# EAGLE library part LTC2945 (library 1mario)
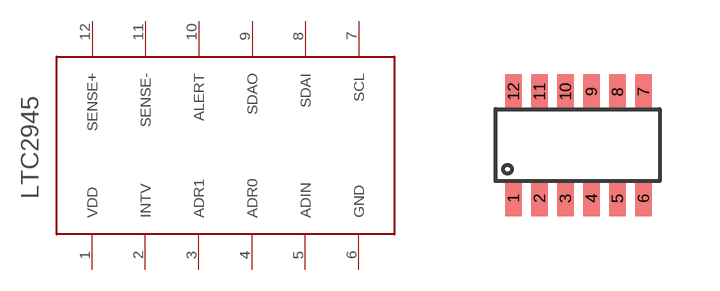
[diagram p0: symbol with the pads of MSOP; footprint MSOP]

Designator prefix -

## LTC2945  [MSOP]
1  VDD
2  INTV
3  ADR1
4  ADR0
5  ADIN
6  GND
7  SCL
8  SDAI
9  SDAO
10  ALERT
11  SENSE-
12  SENSE+

## Footprint MSOP (pad centres in mm)
smd 0.42 x 0.889: 1 -3.25,-1.333; 2 -2.6,-1.333; 3 -1.95,-1.333; 4 -1.3,-1.333; 5 -0.65,-1.333; 6 0,-1.333; 7 0,1.333; 8 -0.65,1.333; 9 -1.3,1.333; 10 -1.95,1.333; 11 -2.6,1.333; 12 -3.25,1.333